# Altium footprint library mypcblib.PcbLib: 128 footprints (part 1 of 8)
Each footprint in its own frame and in the unit in brackets; x right, y up, seen from the top. Pads: shape width x height; smd on the part's side, far side on the other; paste and mask are expansions set on the pad; w line width, h text height; cw(c..) or ccw(c..) is an arc to the next point about the centre after c.
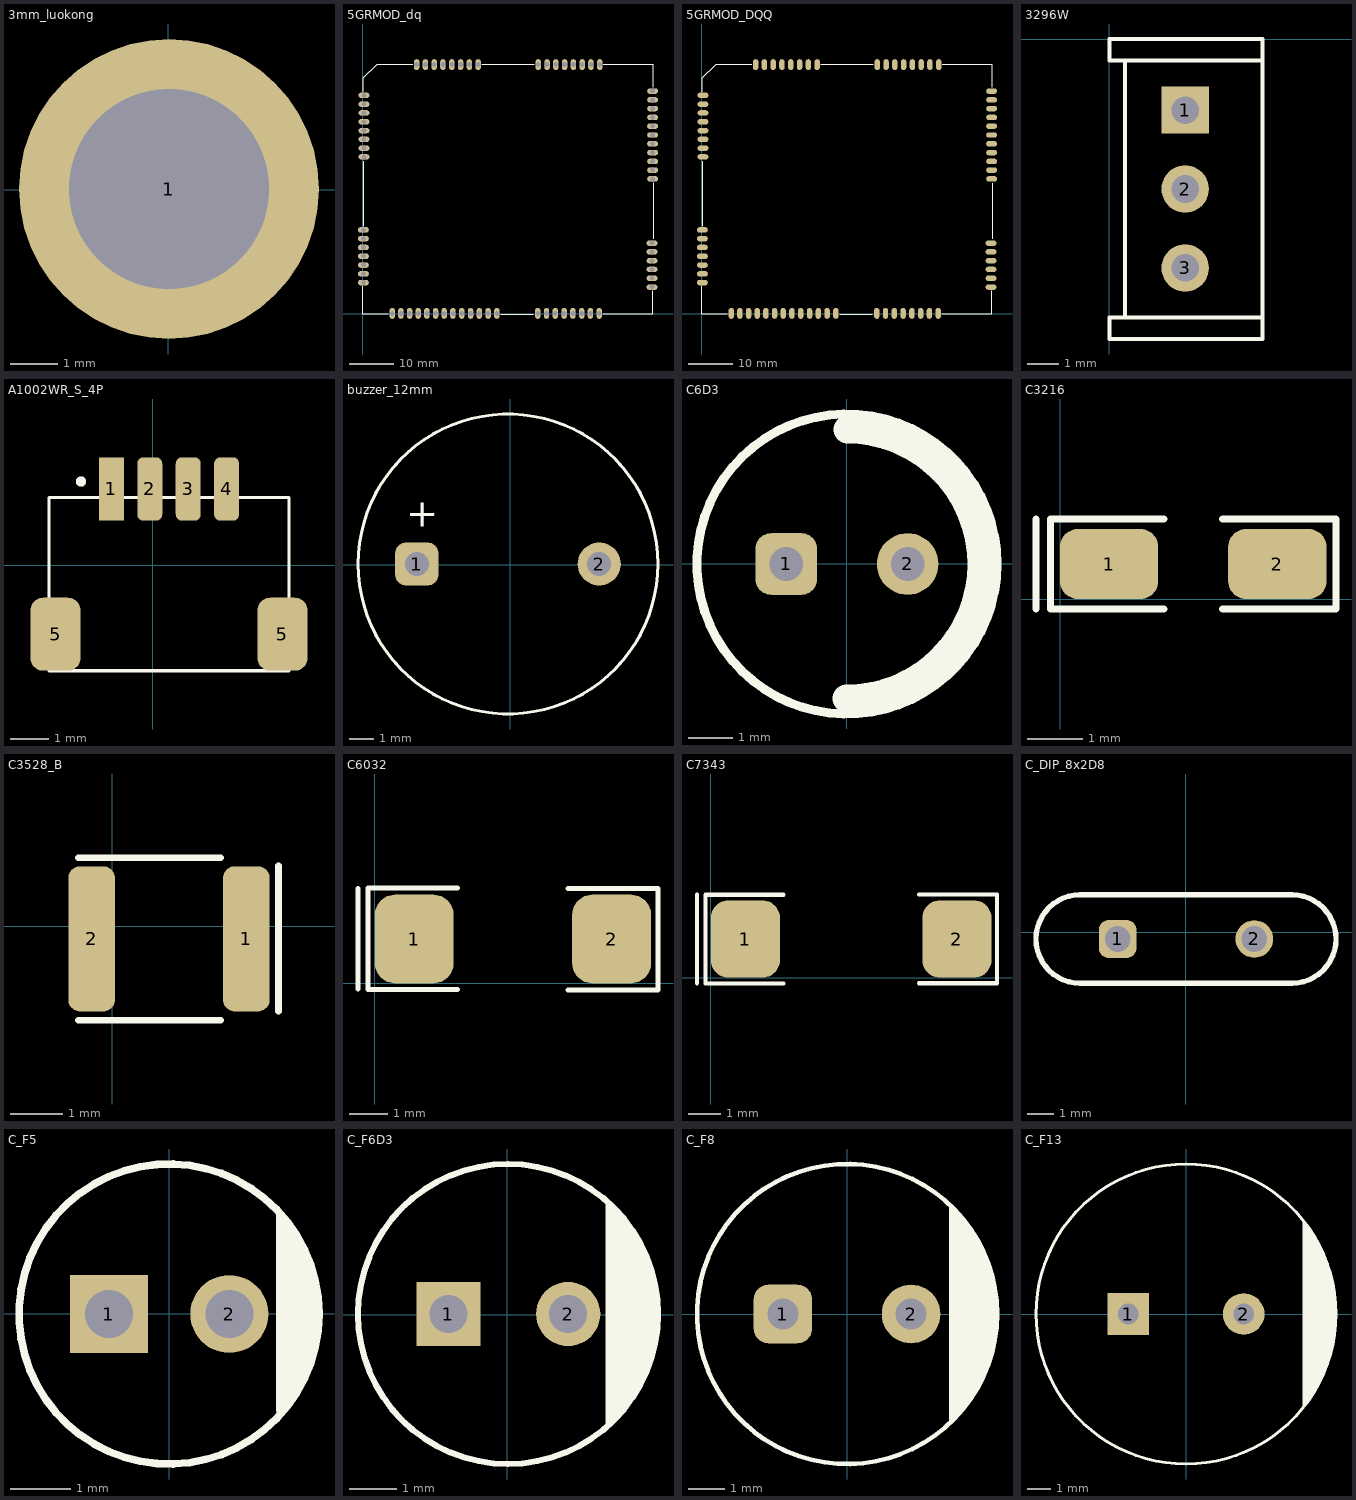
[diagram p0: the footprints below, top view; thin cyan lines are the x and y axes]

## 3mm_luokong [mm]
pads (1):
  round 6.3 hole 4.2: 1(0.011,0.016)

## 5GRMOD_dq [mil]
pads (69):
  oval 97x49 hole 43.31 mask+4: 1(10.81,1957.95) 2(10.81,1879.21) 3(10.81,1800.47) 4(10.81,1721.73) 5(10.81,1642.99) 6(10.81,1564.25) 7(10.81,1485.51) 8(10.81,1406.77) 9(6,753.03) 10(6,674.29) 11(6,595.55) 12(6,516.81) 13(6,438.07) 14(6,359.33) 15(6,280.59) 37(2592.19,240.82) 38(2592.19,319.56) 39(2592.19,398.3) 40(2592.19,477.04) 41(2592.19,555.78) 42(2592.19,634.52) 43(2597,1288.26) 44(2597,1367) 45(2597,1445.74) 46(2597,1524.48) 47(2597,1603.22) 48(2597,1681.96) 49(2597,1760.7) 50(2597,1839.44) 51(2597,1918.18) 52(2597,1996.92) 69(2597,1209.52)
  oval 49x97 hole 43.31 mask+4: 16(264.62,5) 17(342.11,5) 18(419.6,5) 19(497.09,5) 20(574.58,5) 21(652.07,5) 22(729.56,5) 23(808.3,5) 24(887.04,5) 25(965.78,5) 26(1044.52,5) 27(1123.26,5) 28(1202,5) 29(1567.74,5) 30(1646.48,5) 31(1725.22,5) 32(1803.96,5) 33(1882.7,5) 34(1961.44,5) 35(2040.18,5) 36(2118.92,5) 53(2123.73,2233.54) 54(2044.99,2233.54) 55(1966.25,2233.54) 56(1887.51,2233.54) 57(1808.77,2233.54) 58(1730.03,2233.54) 59(1651.29,2233.54) 60(1572.55,2233.54) 61(1033.81,2233.54) 62(955.07,2233.54) 63(876.33,2233.54) 64(797.59,2233.54) 65(718.85,2233.54) 66(640.11,2233.54) 67(561.37,2233.54) 68(482.63,2233.54)
Top Overlay:
  lines w8: 0,248 0,0 230,0 ; 5.81,1990 5.81,2115.81 129,2239 449.81,2239 ; 7,787 7,1367 ; 1067,2237 1537,2237 ; 1235,-3 1527,-3 ; 2151,0 2597,0 2597,209 ; 2155.81,2239 2602.81,2239 2602.81,2029 ; 2607,672 2608,1174

## 5GRMOD_DQQ [mil]
pads (69):
  oval 97x49 smd mask+4: 1(10.81,1957.95) 2(10.81,1879.21) 3(10.81,1800.47) 4(10.81,1721.73) 5(10.81,1642.99) 6(10.81,1564.25) 7(10.81,1485.51) 8(10.81,1406.77) 9(6,753.03) 10(6,674.29) 11(6,595.55) 12(6,516.81) 13(6,438.07) 14(6,359.33) 15(6,280.59) 37(2592.19,240.82) 38(2592.19,319.56) 39(2592.19,398.3) 40(2592.19,477.04) 41(2592.19,555.78) 42(2592.19,634.52) 43(2597,1288.26) 44(2597,1367) 45(2597,1445.74) 46(2597,1524.48) 47(2597,1603.22) 48(2597,1681.96) 49(2597,1760.7) 50(2597,1839.44) 51(2597,1918.18) 52(2597,1996.92) 69(2597,1209.52)
  oval 49x97 smd mask+4: 16(264.62,5) 17(342.11,5) 18(419.6,5) 19(497.09,5) 20(574.58,5) 21(652.07,5) 22(729.56,5) 23(808.3,5) 24(887.04,5) 25(965.78,5) 26(1044.52,5) 27(1123.26,5) 28(1202,5) 29(1567.74,5) 30(1646.48,5) 31(1725.22,5) 32(1803.96,5) 33(1882.7,5) 34(1961.44,5) 35(2040.18,5) 36(2118.92,5) 53(2123.73,2233.54) 54(2044.99,2233.54) 55(1966.25,2233.54) 56(1887.51,2233.54) 57(1808.77,2233.54) 58(1730.03,2233.54) 59(1651.29,2233.54) 60(1572.55,2233.54) 61(1033.81,2233.54) 62(955.07,2233.54) 63(876.33,2233.54) 64(797.59,2233.54) 65(718.85,2233.54) 66(640.11,2233.54) 67(561.37,2233.54) 68(482.63,2233.54)
Top Overlay:
  lines w8: 0,248 0,0 230,0 ; 5.81,1990 5.81,2115.81 129,2239 449.81,2239 ; 7,787 7,1367 ; 1067,2237 1537,2237 ; 1235,-3 1527,-3 ; 2151,0 2597,0 2597,209 ; 2155.81,2239 2602.81,2239 2602.81,2029 ; 2607,672 2607,1170

## 3296W [mm]
pads (3):
  rect 1.5x1.5 hole 0.872: 1(2.4,-2.25)
  round 1.5 hole 0.872: 2(2.4,-4.75) 3(2.4,-7.25)
Top Overlay:
  lines w0.127: 4.85,-8.825 0.5,-8.825 0.5,-0.675 4.85,-0.675 ; 4.85,-8.825 4.85,-0.675 ; 4.85,-8.825 0,-8.825 0,-9.5 4.85,-9.5 4.85,-8.825 ; 4.85,-0.675 0,-0.675 0,0 4.85,0 4.85,-0.675

## A1002WR_S_4P [mm]
pads (6):
  rect 0.65x1.65 smd: 1(-1.08,1.985)
  rrect50% 0.65x1.65 smd: 2(-0.08,1.985) 3(0.92,1.985) 4(1.92,1.985)
  rrect50% 1.3x1.9 smd: 5(-2.53,-1.79) 5(3.37,-1.79)
Top Overlay:
  circle w0.127: c-1.87,2.18 r0.071
  lines w0.08: -2.705,-2.74 -2.705,1.76 3.545,1.76 3.545,-2.74 -2.705,-2.74

## buzzer_12mm [mm]
pads (2):
  rrect50% 1.8x1.8 hole 1: 1(-3.894,0.033)
  round 1.8 hole 1: 2(3.706,0.033)
Top Overlay:
  circle w0.127: c-0.094,0.033 r6.25
  text "+" at -4.34,1.183 h2

## C6D3 [mil]
pads (2):
  rrect50% 55x55 hole 30 mask+6: 1(-54.13,0)
  round 55 hole 30 mask+6: 2(54.13,0)
Top Overlay:
  circle w8: c0,0 r133.86
  lines w25: -0.62,-120 ccw(c0,0) 0.36,120

## C3216 [mm]
pads (2):
  rrect50% 1.78x1.27 smd: 1(0.89,0.635) 2(3.94,0.635)
Top Overlay:
  lines w0.127: -0.436,-0.178 -0.436,1.448 ; 1.884,-0.178 -0.174,-0.178 -0.174,1.448 1.884,1.448 ; 2.946,-0.178 5.004,-0.178 5.004,1.448 2.946,1.448

## C3528_B [mm]
pads (2):
  rrect50% 0.9x2.8 smd: 1(2.58,-0.24) 2(-0.4,-0.24)
Top Overlay:
  lines w0.127: -0.659,-1.803 2.083,-1.803 ; -0.659,1.321 2.083,1.321 ; 3.2,-1.632 3.2,1.168
3D body "C3528.STEP": height 2.03, standoff 0, extent -0.76,-1.705 2.94,1.225

## C6032 [mm]
pads (2):
  rrect50% 2.03x2.28 smd: 1(1.015,1.14) 2(6.095,1.14)
Top Overlay:
  lines w0.127: -0.432,-0.152 -0.432,2.438 ; 2.132,-0.158 -0.18,-0.158 -0.18,2.458 2.132,2.458 ; 4.978,-0.178 7.29,-0.178 7.29,2.438 4.978,2.438

## C7343 [mm]
pads (2):
  rrect50% 2.16x2.41 smd: 1(1.08,1.205) 2(7.69,1.205)
Top Overlay:
  lines w0.127: -0.432,-0.178 -0.432,2.591 ; 2.268,-0.181 -0.171,-0.181 -0.171,2.588 2.268,2.588 ; 6.502,-0.178 8.941,-0.178 8.941,2.591 6.502,2.591

## C_DIP_8x2D8 [mm]
pads (2):
  rrect50% 1.4x1.4 hole 0.95: 1(-2.527,-0.249)
  round 1.4 hole 0.95: 2(2.553,-0.249)
Top Overlay:
  lines w0.2: -3.912,-1.899 cw(c-3.912,-0.249) -3.912,1.401 3.938,1.401 cw(c3.938,-0.249) 3.938,-1.899 -3.912,-1.899

## C_F5 [mm] "47uF_25V"
pads (2):
  rect 1.3x1.3 hole 0.8: 1(-1.002,-0.002)
  round 1.3 hole 0.8: 2(1.004,-0.002)
Top Overlay:
  circle w0.127: c-0.002,-0.002 r2.5
  lines w0.152: 2.108,-1.27 2.108,1.295 ; 2.235,-1.067 2.235,1.067 ; 2.235,-0.787 2.362,-0.66 2.362,0.686 2.286,0.762 ; 2.337,0.254 2.388,0.203 2.388,-0.254 ; 1.854,-1.6 1.854,1.626 1.981,1.499 1.981,-1.473 1.854,-1.6

## C_F6D3 [mm] "2D2uF_250V"
pads (2):
  rect 1.35x1.35 hole 0.8: 1(-1.237,0.013)
  round 1.35 hole 0.8: 2(1.276,0.013)
Top Overlay:
  circle w0.127: c0.013,0.013 r3.15
  lines w0.152: 2.134,-2.261 2.134,2.286 ; 2.235,-2.108 2.235,2.134 ; 2.362,-2.007 2.362,2.032 ; 2.489,-1.905 2.489,1.905 ; 2.616,-1.727 2.616,1.702 ; 2.743,-1.499 2.743,1.499 ; 2.87,-1.27 2.87,1.245 ; 2.997,-0.914 2.997,0.965 ; 3.124,-0.381 3.124,0.381

## C_F8 [mm]
pads (2):
  rrect50% 1.6x1.6 hole 0.85: 1(-1.75,0)
  round 1.6 hole 0.85: 2(1.75,0)
Top Overlay:
  circle w0.127: c0,0 r4.1
  region: 2.794,2.921 2.921,2.794 3.104,2.603 3.417,2.175 3.672,1.71 3.864,1.217 3.99,0.702 4.047,0.175 4.035,-0.355 3.954,-0.878 3.806,-1.387 3.592,-1.872 3.317,-2.325 2.985,-2.738 2.794,-2.921

## C_F13 [mm] "1000uF_50V"
pads (2):
  rect 1.8x1.8 hole 0.9: 1(-2.515,0.01)
  round 1.8 hole 0.9: 2(2.485,0.01)
Top Overlay:
  circle w0.127: c-0.015,0.01 r6.5
  lines w0.152: 5.105,3.937 5.105,-3.912 5.207,-3.81 5.207,3.759 5.334,3.632 5.334,-3.632 ; 5.664,-3.099 5.664,3.099 ; 5.791,-2.845 5.791,2.845 ; 5.918,-2.565 5.918,2.591 ; 6.02,-2.235 6.02,2.311 ; 6.121,-2.007 6.121,1.981 ; 6.248,-1.651 6.248,1.651 ; 6.375,-1.118 6.375,1.118 ; 5.436,-3.404 5.537,-3.302 5.537,3.327 5.436,3.429 5.436,-3.404